# EAGLE library part 174917-6 (library 174917-6)
0.40/0.70 Hybrid Housing,cap,r/a,DR,48w Source: Datasheet <https://www.te.com/commerce/DocumentDelivery/DDEController?Action=showdoc&DocId=Customer Drawing174917M8pdfJapaneseJPN_CD_174917_M8.pdf174917-6>
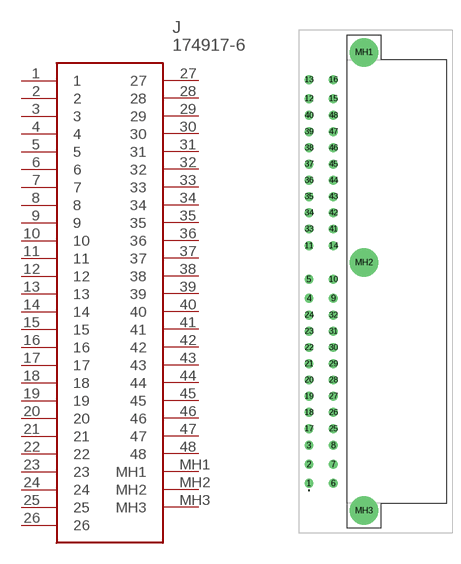
[diagram p0: symbol with the pads of 1749176; footprint 1749176]

Designator prefix J

## 174917-6 (Arrow_Part_Number: 174917-6; Arrow_Price-Stock: http://www.arrow.com/en/products/174917-6/te-connectivity; Description: 0.40/0.70 Hybrid Housing,cap,r/a,DR,48w; Height: 22.2mm; Manufacturer_Name: TE Connectivity; Manufacturer_Part_Number: 174917-6; Mouser_Part_Number: 571-174917-6; Mouser_Price-Stock: https://www.mouser.co.uk/ProductDetail/TE-Connectivity-AMP/174917-6?qs=7lUI3dtMLl2Jl4sNx8kZBg%3D%3D)  [1749176]
1  1
2  2
3  3
4  4
5  5
6  6
7  7
8  8
9  9
10  10
11  11
12  12
13  13
14  14
15  15
16  16
17  17
18  18
19  19
20  20
21  21
22  22
23  23
24  24
25  25
26  26
27  27
28  28
29  29
30  30
31  31
32  32
33  33
34  34
35  35
36  36
37  37
38  38
39  39
40  40
41  41
42  42
43  43
44  44
45  45
46  46
47  47
48  48
MH1  MH1
MH2  MH2
MH3  MH3

## Footprint 1749176 (pad centres in mm)
174917-6-3
drill 1.1 pad 1.65: 1 0,0; 2 0,3.5; 3 0,7; 4 0,34.2; 5 0,37.7; 6 4.5,0; 7 4.5,3.5; 8 4.5,7; 9 4.5,34.2; 10 4.5,37.7; 11 0,43.9; 12 0,71.1; 13 0,74.6; 14 4.5,43.9; 15 4.5,71.1; 16 4.5,74.6; 17 0,10.1; 18 0,13.1; 19 0,16.1; 20 0,19.1; 21 0,22.1; 22 0,25.1; 23 0,28.1; 24 0,31.1; 25 4.5,10.1; 26 4.5,13.1; 27 4.5,16.1; 28 4.5,19.1; 29 4.5,22.1; 30 4.5,25.1; 31 4.5,28.1; 32 4.5,31.1; 33 0,47; 34 0,50; 35 0,53; 36 0,56; 37 0,59; 38 0,62; 39 0,65; 40 0,68; 41 4.5,47; 42 4.5,50; 43 4.5,53; 44 4.5,56; 45 4.5,59; 46 4.5,62; 47 4.5,65; 48 4.5,68
drill 3.5 pad 5.25: MH1 10.2,79.65; MH2 10.2,40.8; MH3 10.2,-5.05